# EAGLE library part MCP6N11 (library cTechnologies_integratedCircuits)
MCP6N11-010E 500 kHz, 800 μA Instrumentation Amplifier
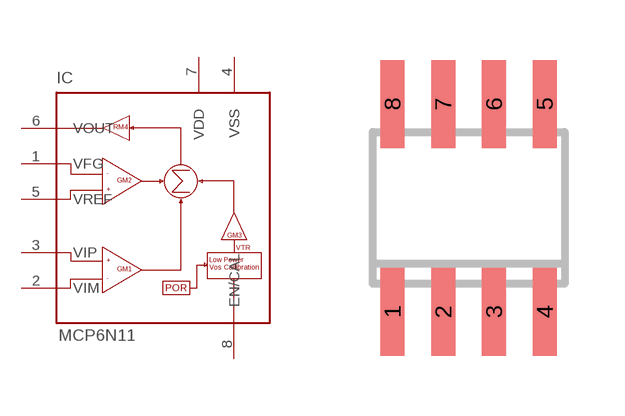
[diagram p1: symbol with the pads of SO-08; footprint SO-08]

Designator prefix IC

## MCP6N11-010 (OC_FARNELL: 2065864; OC_TME: MCP6N11-010E/SN)  [SO-08]
1  VFG
2  VIM
3  VIP
4  VSS
5  VREF
6  VOUT
7  VDD
8  EN/CAL

## Footprint SO-08 (pad centres in mm)
Small Outline Narrow Plastic Gull Wing 150-mil body, package type SN
smd 0.6 x 2.2: 1 -1.905,-2.6; 2 -0.635,-2.6; 3 0.635,-2.6; 4 1.905,-2.6; 5 1.905,2.6; 6 0.635,2.6; 7 -0.635,2.6; 8 -1.905,2.6